# Altium schematic symbol library SCH - LOGIC - TI SN74LVC2G14DCKR.SCHLIB: 1 symbol
Pins are listed as number, name and electrical type; pins without a type are passive.

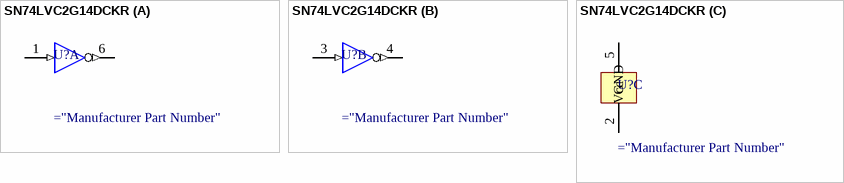
[diagram p0: symbol SN74LVC2G14DCKR]

## SN74LVC2G14DCKR
designator U?
IC, Buffer, Inverter, Schmitt Trigger, Dual
part A pins: 1 1A (in), 6 1Y (out)
part B pins: 3 2A (in), 4 2Y (out)
part C pins: 2 GND (power), 5 Vcc (power)